# Altium footprint library Resistors-potenciometers.PcbLib: 78 footprints (part 5 of 5)
Each footprint in its own frame and in the unit in brackets; x right, y up, seen from the top. Pads: shape width x height; smd on the part's side, far side on the other; paste and mask are expansions set on the pad; w line width, h text height; cw(c..) or ccw(c..) is an arc to the next point about the centre after c.
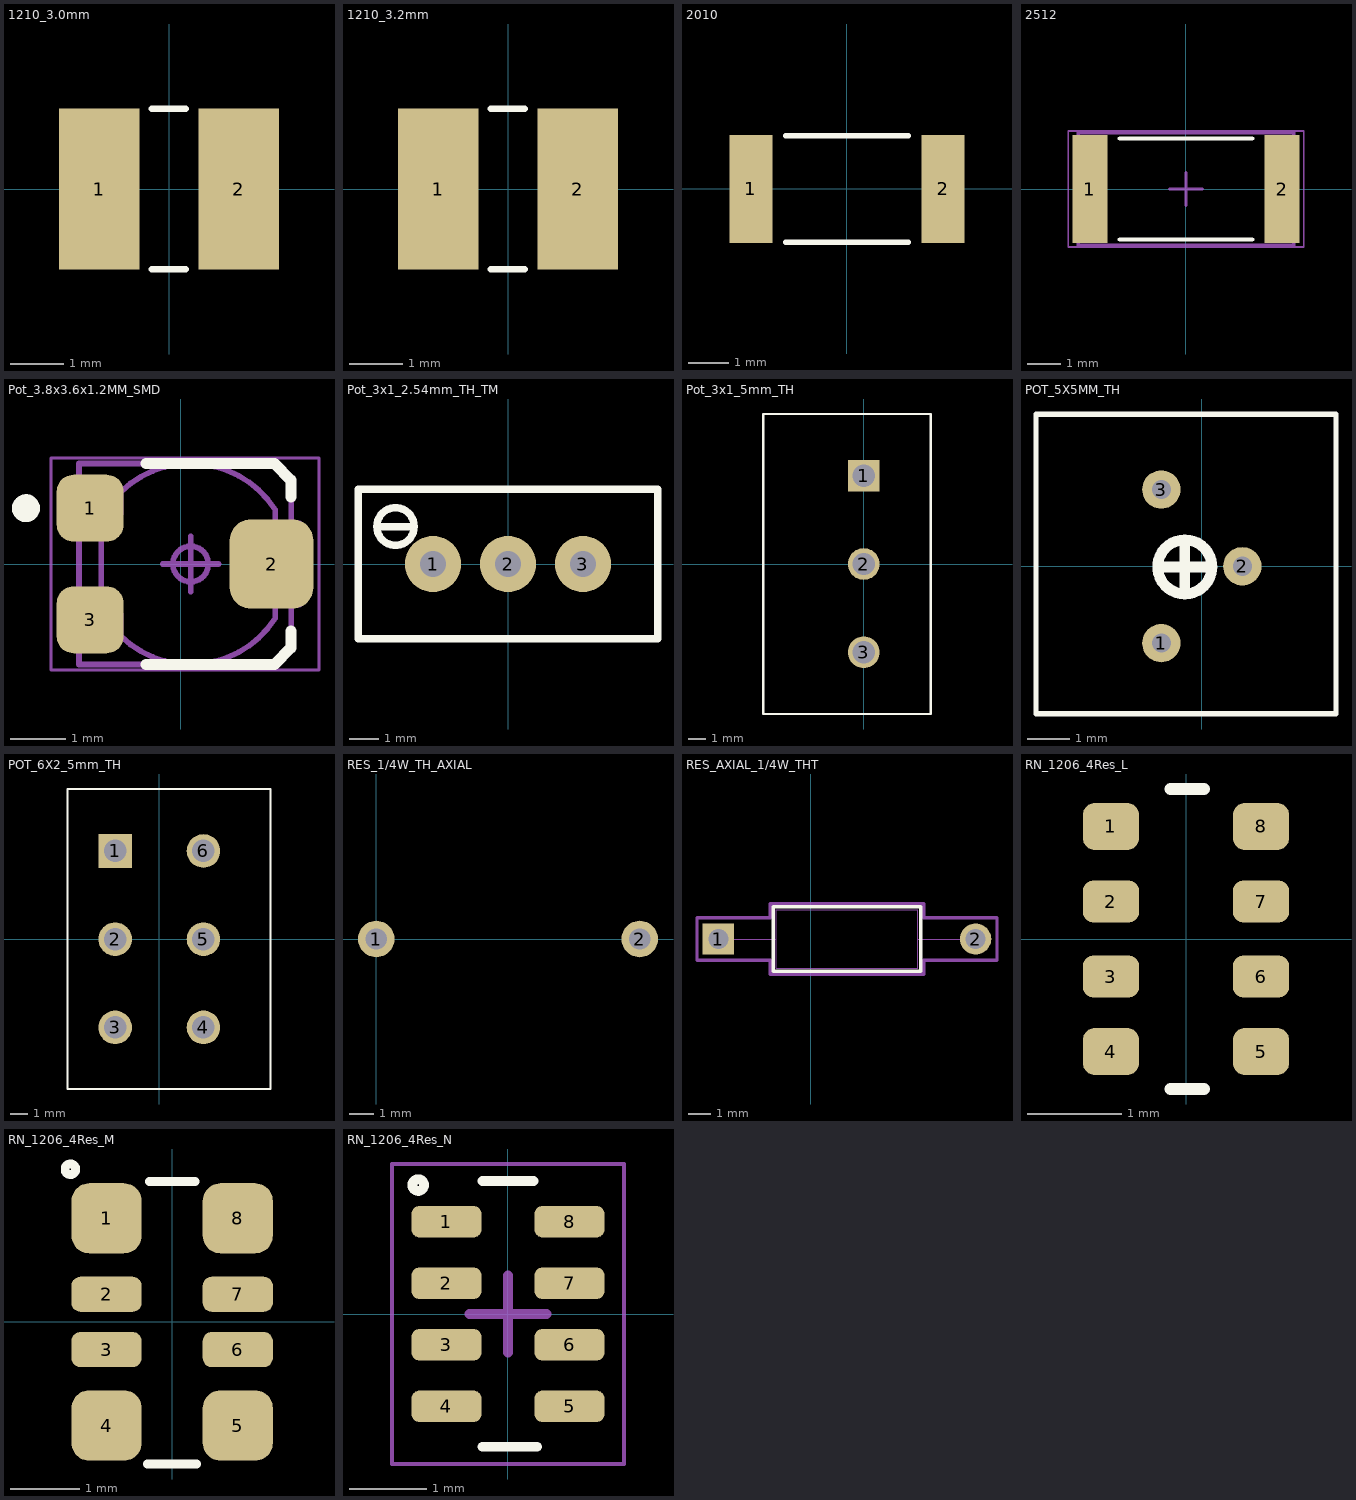
[diagram p4: the footprints below, top view; thin cyan lines are the x and y axes]

## 1210_3.0mm [mm] "3225 Metric/20230206/J-A.Sepulveda"
pads (2):
  rect 1.5x3 smd: 1(-1.3,0) 2(1.3,0)
Top Overlay:
  lines w0.127: -0.322,-1.499 0.313,-1.499 ; -0.322,1.499 0.313,1.499
3D body: height 3.1, standoff 0.1, extent -1.75,-1.4 1.75,1.4

## 1210_3.2mm [mm] "3225 Metric/20230206/J-A.Sepulveda"
pads (2):
  rect 1.5x3 smd: 1(-1.3,0) 2(1.3,0)
Top Overlay:
  lines w0.127: -0.322,-1.499 0.313,-1.499 ; -0.322,1.499 0.313,1.499
3D body: height 3.3, standoff 0.1, extent -1.75,-1.4 1.75,1.4

## 2010 [mm] "E.Naranjo/20220217"
pads (2):
  rect 1.07x2.67 smd: 1(-2.38,0) 2(2.38,0)
Top Overlay:
  lines w0.127: -1.52,-1.32 1.52,-1.32 ; -1.52,1.32 1.52,1.32
3D body "RC2010JK-07100RL.STEP": height 0.66, standoff 0.01, extent -2.5,-1.25 2.5,1.25

## 2512 [mm] "6432 metric/ 20190613/ J-P.Vargas.A"
pads (2):
  rect 1.05x3.25 smd: 1(-2.9,0) 2(2.9,0)
Top Overlay:
  lines w0.127: -2,-1.525 2,-1.525 ; -2,1.525 2,1.525
Mechanical 1:
  lines w0.1: -3.25,-1.7 -3.25,1.7 3.25,1.7 3.25,-1.7 -3.25,-1.7
Mechanical 15:
  lines w0.05: -3.55,-1.75 -3.55,1.75 3.55,1.75 3.55,-1.75 -3.55,-1.75
  lines w0.1: -0.5,0 0.5,0 ; 0,-0.5 0,0.5
3D body: height 0.75, standoff 0, extent -3.25,-1.7 -2.63,1.7
3D body: height 0.75, standoff 0, extent 2.63,-1.7 3.25,1.7
3D body: height 0.75, standoff 0, extent -2.63,-1.7 2.63,1.7

## Pot_3.8x3.6x1.2MM_SMD [mm] "/20201126/C-D Viveros"
pads (3):
  rrect50% 1.2x1.2 smd: 1(-1.625,1) 3(-1.625,-1)
  rrect50% 1.5x1.6 smd: 2(1.625,0)
Top Overlay:
  circle w0.25: c-2.775,1 r0.125
  lines w0.2: -0.625,-1.8 1.675,-1.8 1.975,-1.5 1.975,-1.2 ; -0.625,1.8 1.675,1.8 1.975,1.5 1.975,1.2
Mechanical 1:
  lines w0.1: 1.69,-0.73 2.125,-0.73 2.125,-0.425 1.975,-0.425 ; 1.69,0.73 2.125,0.73 2.125,0.425 1.975,0.425 ; 1.975,-0.75 1.975,-1.5 1.675,-1.8 -1.825,-1.8 -1.825,1.8 1.675,1.8 1.975,1.5 1.975,0.75 ; 1.975,-0.42 1.975,0.42 ; -1.425,-0.895 -1.075,-0.895 -1.075,-1.295 ccw(c0.175,0) 1.69,-0.972 1.69,-0.352 ccw(c1.335,0) 1.69,0.352 1.69,0.972 ccw(c0.175,0) -1.075,1.295 -1.075,0.895 -1.425,0.895 -1.425,-0.895 ; 0.175,-0.318 cw(c0.175,0) 0.175,0.317 cw(c0.175,0) 0.175,-0.318
Mechanical 15:
  lines w0.05: -2.325,-1.9 2.475,-1.9 2.475,1.9 -2.325,1.9 -2.325,-1.9
  lines w0.1: -0.325,0 0.675,0 ; 0.175,-0.5 0.175,0.5
3D body "BOUR-TC33X-2.stp": height 1.15, standoff 0, extent -1.825,-1.8 2.138,1.8

## Pot_3x1_2.54mm_TH_TM [mil] "/20201120/C-A.Serna.A"
pads (3):
  round 75 hole 35: 1(-100,0) 2(0,0) 3(100,0)
Top Overlay:
  lines w10: -175,50 ccw(c-150,50) -125,50 ; -175,50 cw(c-150,50) -125,50 ; -175,50 -125,50 ; -200,-100 -200,100 200,100 200,-100 -200,-100
3D body "3296W.stp": height 455.5, standoff -251.57, extent -187.5,-95.12 187.5,95.12

## Pot_3x1_5mm_TH [mm] "20190528/ V-A.Patino"
pads (3):
  rect 1.8x1.8 hole 1.27: 1(0,5)
  round 1.8 hole 1.27: 2(0,0) 3(0,-5)
Top Overlay:
  lines w0.127: -5.7,-8.5 3.8,-8.5 3.8,8.5 -5.7,8.5 -5.7,-8.5
3D body "P160NK.STEP": height 21, standoff -3.98, extent -5.639,-8.547 18.861,8.453

## POT_5X5MM_TH [mm] "20220330 / E.Naranjo"
pads (3):
  round 0.9 hole 0.45: 1(-0.95,-1.8) 2(0.95,0) 3(-0.95,1.8)
Top Overlay:
  lines w0.127: -3.889,-3.455 -3.889,3.563 3.144,3.563 3.144,-3.455 -3.889,-3.455
  lines w0.254: -1.035,-0.014 0.235,-0.014 ; -0.4,-0.649 cw(c-0.4,-0.014) -0.4,0.621 ; -0.4,-0.649 ccw(c-0.4,-0.014) -0.4,0.621 ; -0.4,-0.649 -0.4,0.621
3D body "CT-6EW1k_(102).stp": height 5.6, standoff -7.2, extent -3.876,-3.428 3.124,3.572

## POT_6X2_5mm_TH [mm] "20190617/ M-X.Arias"
pads (6):
  rect 1.905x1.905 hole 1.27: 1(-2.5,5)
  round 1.905 hole 1.27: 2(-2.5,0) 3(-2.5,-5) 4(2.5,-5) 5(2.5,0) 6(2.5,5)
Top Overlay:
  lines w0.127: -5.201,8.494 -5.201,-8.49 6.299,-8.49 ; -5.201,8.511 6.299,8.511 6.296,-8.49
3D body "DOUBLE POTENTIOMETER.SLDPRT": height 20.25, standoff -3, extent -4.835,-8.269 29.265,8.231

## RES_1/4W_TH_AXIAL [mil] "/20231112/ J.Jaramillo"
pads (2):
  round 60 hole 35: 1(0,0)
  round 60 hole 35 paste-99999: 2(433.07,0)
3D body "MFR-25FBF52-100K.STEP": height 102.36, standoff -1004.92, extent -10.83,-51.18 443.9,51.18

## RES_AXIAL_1/4W_THT [mil] "/20260925/ H.Pabón"
pads (2):
  rect 55x55 / inner round 60 / far side rect 55x55 hole 35 paste-99999 mask+0: 1(-161.81,-355)
  round 55 / inner round 60 / far side round 55 hole 35 paste-99999 mask+0: 2(288.19,-355)
Top Overlay:
  lines w6: -65.81,-411.5 192.19,-411.5 192.19,-298.5 -65.81,-298.5 -65.81,-411.5
Mechanical 13:
  lines w1: -161.81,-355 -60.81,-355 ; 187.19,-355 288.19,-355 ; -60.81,-406.5 187.19,-406.5 187.19,-303.5 -60.81,-303.5 -60.81,-406.5
Mechanical 15:
  lines w6: -199.31,-392.5 -199.31,-317.5 -70.81,-317.5 -70.81,-293.5 197.19,-293.5 197.19,-317.5 325.69,-317.5 325.69,-392.5 197.19,-392.5 197.19,-416.5 -70.81,-416.5 -70.81,-392.5 -199.31,-392.5
3D body "STA_CF14_STP.step": height 103, standoff -110, extent -174.29,-406.12 300.67,-303.88

## RN_1206_4Res_L [mm] "3216 Metric / 20200731 / N-A.Potosi"
pads (8):
  rrect50% 0.6x0.5 smd: 1(-0.8,1.2) 4(-0.8,-1.2) 5(0.8,-1.2) 8(0.8,1.2)
  rrect50% 0.6x0.45 smd: 2(-0.8,0.4) 3(-0.8,-0.4) 6(0.8,-0.4) 7(0.8,0.4)
Top Overlay:
  lines w0.127: -0.165,-1.6 0.191,-1.6 ; -0.165,1.6 0.191,1.6
3D body "YC164_RESPACK.stp": height 0.63, standoff 0.02, extent -0.8,-1.6 0.8,1.6

## RN_1206_4Res_M [mm] "3216 Metric / 20200731 / N-A.Potosi"
pads (8):
  rrect50% 1.016x1.016 smd: 1(-0.95,1.5) 4(-0.95,-1.5) 5(0.95,-1.5) 8(0.95,1.5)
  rrect50% 1.016x0.508 smd: 2(-0.95,0.4) 3(-0.95,-0.4) 6(0.95,-0.4) 7(0.95,0.4)
Top Overlay:
  circle w0.127: c-1.473,2.21 r0.076
  lines w0.127: -0.356,-2.057 0.356,-2.057 ; -0.33,2.032 0.33,2.032
3D body "Array_Res.stp": height 0.51, standoff 0.01, extent -0.803,-1.599 0.797,1.601

## RN_1206_4Res_N [mm] "3216 Metric / 20200731 / N-A.Potosi"
pads (8):
  rrect50% 0.914x0.406 smd: 1(-0.8,1.2) 2(-0.8,0.4) 3(-0.8,-0.4) 4(-0.8,-1.2) 5(0.8,-1.2) 6(0.8,-0.4) 7(0.8,0.4) 8(0.8,1.2)
Top Overlay:
  circle w0.127: c-1.168,1.676 r0.076
  lines w0.127: -0.33,-1.727 0.381,-1.727 ; -0.33,1.728 0.33,1.728
Mechanical 15:
  lines w0.05: -1.51,-1.95 1.51,-1.95 1.51,1.95 -1.51,1.95 -1.51,-1.95
  lines w0.127: -0.5,0 0.5,0 ; 0,-0.5 0,0.5
3D body "CAC-80P319X155-8N.step": height 0.6, standoff 0, extent -0.975,-1.7 0.925,1.7